# Altium footprint library U-BLOX_Library.PcbLib: 2 footprints
Each footprint in its own frame and in the unit in brackets; x right, y up, seen from the top. Pads: shape width x height; smd on the part's side, far side on the other; paste and mask are expansions set on the pad; w line width, h text height; cw(c..) or ccw(c..) is an arc to the next point about the centre after c.
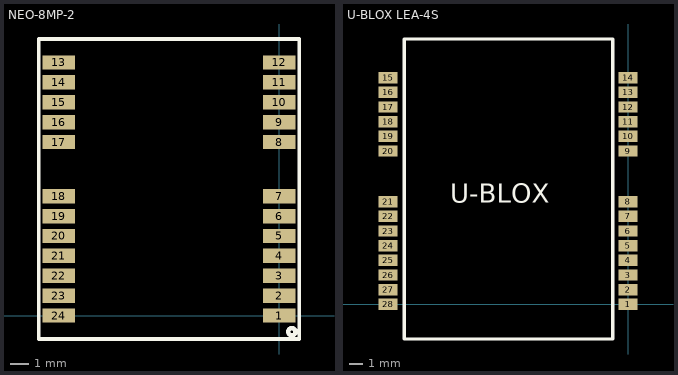
[diagram p0: the footprints below, top view; thin cyan lines are the x and y axes]

## NEO-8MP-2 [mm]
pads (24):
  rect 1.8x0.8 smd: 1(0,0) 2(0,1.1) 3(0,2.2) 4(0,3.3) 5(0,4.4) 6(0,5.5) 7(0,6.6) 8(0,9.6) 9(0,10.7) 10(0,11.8) 11(0,12.9) 12(0,14) 13(-12.2,14) 14(-12.2,12.9) 15(-12.2,11.8) 16(-12.2,10.7) 17(-12.2,9.6) 18(-12.2,6.6) 19(-12.2,5.5) 20(-12.2,4.4) 21(-12.2,3.3) 22(-12.2,2.2) 23(-12.2,1.1) 24(-12.2,0)
Top Overlay:
  circle w0.254: c0.7,-0.9 r0.2
  lines w0.2: -13.3,-1.3 -10.1,-1.3 1.1,-1.3 1.1,-0.3 1.1,15.3 -13.3,15.3 -13.3,14.3 -13.3,0.5 -13.3,-1.3
3D body: height 2.64, standoff 0, extent -12.38,-1.3 -0.02,15.3

## U-BLOX LEA-4S [mil]
pads (28):
  rect 56x33 smd: 1(0,0) 2(0,43.27) 3(0,86.53) 4(0,129.8) 5(0,173.07) 6(0,216.33) 7(0,259.6) 8(0,302.87) 9(0,452.33) 10(0,495.6) 11(0,538.87) 12(0,582.13) 13(0,625.4) 14(0,668.67) 15(-708,668.67) 16(-708,625.4) 17(-708,582.13) 18(-708,538.87) 19(-708,495.6) 20(-708,452.33) 21(-708,302.87) 22(-708,259.6) 23(-708,216.33) 24(-708,173.07) 25(-708,129.8) 26(-708,86.53) 27(-708,43.27) 28(-708,0)
Top Overlay:
  lines w10: -660,-102.27 -45,-102.27 -45,782.73 -660,782.73 -660,-102.27
  text "U-BLOX" at -525,300 h56.25
3D body: height 95.28, standoff 0, extent -689.65,-100.94 -20.35,780.95